# Altium footprint library PMIC - Gate Drivers.PcbLib: 2 footprints
Each footprint in its own frame and in the unit in brackets; x right, y up, seen from the top. Pads: shape width x height; smd on the part's side, far side on the other; paste and mask are expansions set on the pad; w line width, h text height; cw(c..) or ccw(c..) is an arc to the next point about the centre after c.
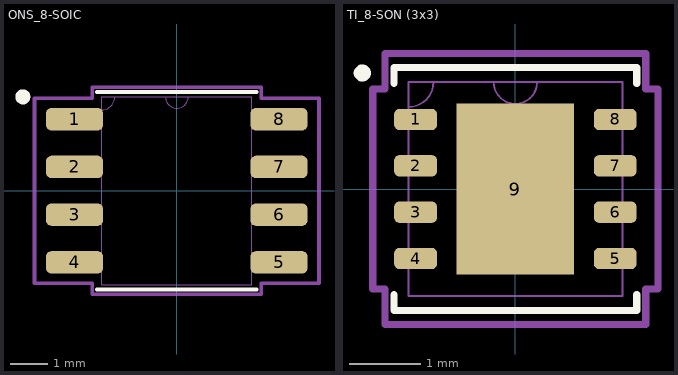
[diagram p0: the footprints below, top view; thin cyan lines are the x and y axes]

## ONS_8-SOIC [mm]
pads (8):
  rrect50% 1.52x0.6 smd mask+0.04: 1(-2.721,1.905) 2(-2.721,0.635) 3(-2.721,-0.635) 4(-2.721,-1.905) 5(2.721,-1.905) 6(2.721,-0.635) 7(2.721,0.635) 8(2.721,1.905)
Top Overlay:
  circle w0.2: c-4.1,2.5 r0.1
  lines w0.1: -2.121,-2.629 2.121,-2.629 ; -2.121,2.629 2.121,2.629
Mechanical 13:
  lines w0.025: -2,2.15 ccw(c-2,2.5) -1.65,2.5 ; -0.305,2.502 ccw(c0,2.502) 0.305,2.502 ; -3.099,-2.159 -3.099,-1.651 -1.994,-1.651 -1.994,-2.159 -3.099,-2.159 ; -3.099,-0.889 -3.099,-0.381 -1.994,-0.381 -1.994,-0.889 -3.099,-0.889 ; -3.099,0.381 -3.099,0.889 -1.994,0.889 -1.994,0.381 -3.099,0.381 ; -3.099,1.651 -3.099,2.159 -1.994,2.159 -1.994,1.651 -3.099,1.651 ; -1.994,-2.502 1.994,-2.502 1.994,2.502 -1.994,2.502 -1.994,-2.502 ; 1.994,-2.159 1.994,-1.651 3.099,-1.651 3.099,-2.159 1.994,-2.159 ; 1.994,-0.889 1.994,-0.381 3.099,-0.381 3.099,-0.889 1.994,-0.889 ; 1.994,0.381 1.994,0.889 3.099,0.889 3.099,0.381 1.994,0.381 ; 1.994,1.651 1.994,2.159 3.099,2.159 3.099,1.651 1.994,1.651
Mechanical 15:
  lines w0.1: -3.785,-2.464 -3.785,2.464 -2.248,2.464 -2.248,2.756 2.248,2.756 2.248,2.464 3.785,2.464 3.785,-2.464 2.248,-2.464 2.248,-2.756 -2.248,-2.756 -2.248,-2.464 -3.785,-2.464
3D body: height 0.25, standoff 0, extent 0,0 0.254,0.254
3D body "SOIC-8NB_751-07_ONS.step": height 1.76, standoff 0, extent -3.099,-2.502 3.099,2.502

## TI_8-SON (3x3) [mm]
pads (9):
  rrect50% 0.6x0.3 smd mask+0.04: 1(-1.4,0.975) 2(-1.4,0.325) 3(-1.4,-0.325) 4(-1.4,-0.975) 5(1.4,-0.975) 6(1.4,-0.325) 7(1.4,0.325) 8(1.4,0.975)
  rect 1.65x2.4 smd paste-1.181 mask-1.181: 9(0,0)
Top Layer:
  region: 0,-1.2
  region: 0,1.2
Top Overlay:
  circle w0.12: c-2.148,1.627 r0.06
  lines w0.1: -1.702,-1.483 -1.702,-1.702 1.702,-1.702 1.702,-1.483 ; -1.702,1.483 -1.702,1.702 1.702,1.702 1.702,1.483
Top Paste:
  region: 0.75,-0.887 0.635,-0.887 0.494,-1.029 0.494,-1.125 0.75,-1.125
  region: 0.75,-0.1 0.635,-0.1 0.494,-0.241 0.494,-0.546 0.635,-0.687 0.75,-0.687
  region: 0.75,0.687 0.635,0.687 0.494,0.546 0.494,0.241 0.635,0.1 0.75,0.1
  region: 0.75,1.125 0.494,1.125 0.494,1.029 0.635,0.887 0.75,0.887
  region: 0.152,-0.887 -0.152,-0.887 -0.294,-1.029 -0.294,-1.125 0.294,-1.125 0.294,-1.029
  region: 0.152,-0.1 -0.152,-0.1 -0.294,-0.241 -0.294,-0.546 -0.152,-0.687 0.152,-0.687 0.294,-0.546 0.294,-0.241
  region: 0.152,0.687 -0.152,0.687 -0.294,0.546 -0.294,0.241 -0.152,0.1 0.152,0.1 0.294,0.241 0.294,0.546
  region: 0.294,1.125 -0.294,1.125 -0.294,1.029 -0.152,0.887 0.152,0.887 0.294,1.029
  region: -0.635,-0.887 -0.75,-0.887 -0.75,-1.125 -0.494,-1.125 -0.494,-1.029
  region: -0.635,-0.1 -0.75,-0.1 -0.75,-0.687 -0.635,-0.687 -0.494,-0.546 -0.494,-0.241
  region: -0.635,0.687 -0.75,0.687 -0.75,0.1 -0.635,0.1 -0.494,0.241 -0.494,0.546
  region: -0.494,1.125 -0.75,1.125 -0.75,0.887 -0.635,0.887 -0.494,1.029
  region: 0,-1.2
  region: 0,1.2
Top Solder:
  region: -0.85,0.987 -0.85,1.225 0.85,1.225 0.85,0.987
  region: 0.594,-1.225 0.594,1.225 0.85,1.225 0.85,-1.225
  region: 0.194,-1.225 0.194,1.225 -0.194,1.225 -0.194,-1.225
  region: -0.85,-1.225 -0.85,1.225 -0.594,1.225 -0.594,-1.225
  region: -0.85,-1.225 -0.85,-0.987 0.85,-0.987 0.85,-1.225
  region: -0.85,-0.587 -0.85,-0.2 0.85,-0.2 0.85,-0.587
  region: -0.85,0.2 -0.85,0.587 0.85,0.587 0.85,0.2
  region: 0,-1.2
  region: 0,1.2
Mechanical 13:
  lines w0.025: -1.5,1.15 ccw(c-1.5,1.5) -1.15,1.5 ; -0.305,1.5 ccw(c0,1.5) 0.305,1.5 ; -1.5,-1.5 -1.5,1.5 1.5,1.5 1.5,-1.5 -1.5,-1.5
Mechanical 15:
  circle w0.05: c0,0 r0.25
  lines w0.05: -0.35,0 0.35,0 ; 0,-0.35 0,0.35
  lines w0.1: -2,-1.404 -1.829,-1.404 -1.829,-1.9 1.829,-1.9 1.829,-1.404 2,-1.404 2,1.404 1.829,1.404 1.829,1.9 -1.829,1.9 -1.829,1.404 -2,1.404 -2,-1.404
3D body "DRB0008B.stp": height 0.77, standoff 0, extent -1.5,-1.5 1.5,1.5
3D body: height 0.25, standoff 0, extent 0,0 0.254,0.254